# EAGLE library part EZO-BU3 (library con-ezo)
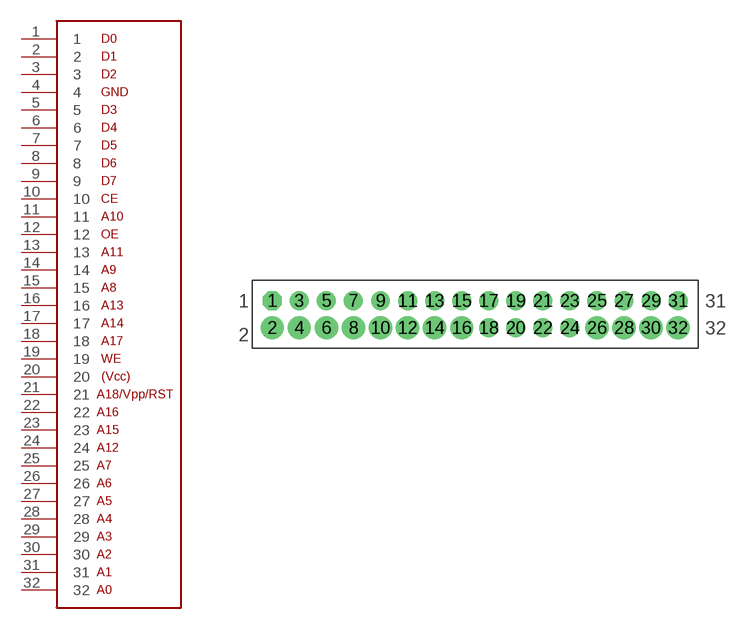
[diagram p1: symbol with the pads of EZO-BU3; footprint EZO-BU3]

Designator prefix -

## EZO-BU3  [EZO-BU3]
1  1
2  2
3  3
4  4
5  5
6  6
7  7
8  8
9  9
10  10
11  11
12  12
13  13
14  14
15  15
16  16
17  17
18  18
19  19
20  20
21  21
22  22
23  23
24  24
25  25
26  26
27  27
28  28
29  29
30  30
31  31
32  32

## Footprint EZO-BU3 (pad centres in mm)
drill 0.8 pad 1.778 octagon: 1 0,0
drill 0.8 pad 2.184: 2 0,-2.54; 4 2.54,-2.54; 6 5.08,-2.54; 8 7.62,-2.54; 10 10.16,-2.54; 12 12.7,-2.54; 14 15.24,-2.54; 16 17.78,-2.54; 26 30.48,-2.54; 28 33.02,-2.54; 30 35.56,-2.54; 32 38.1,-2.54
drill 0.8 pad 1.778: 3 2.54,0; 5 5.08,0; 7 7.62,0; 9 10.16,0; 11 12.7,0; 13 15.24,0; 15 17.78,0; 17 20.32,0; 18 20.32,-2.54; 19 22.86,0; 20 22.86,-2.54; 21 25.4,0; 22 25.4,-2.54; 23 27.94,0; 24 27.94,-2.54; 25 30.48,0; 27 33.02,0; 29 35.56,0; 31 38.1,0